# EAGLE library part AMPLIFIER-LMV358 (library IC)
Low-Voltage Rail-To-Rail Output Operational Amplifiers
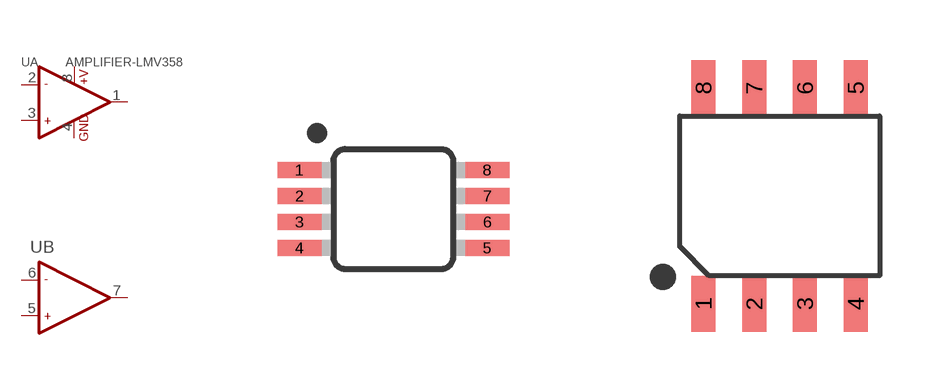
[diagram p5: symbol with the pads of MSOP-8; footprints MSOP-8, SOIC-8]

Designator prefix U; gates A=OPAMP_2-1 B=OPAMP_2_1-1

## AMPLIFIER-LMV358-310020007  [MSOP-8]
1  A:OUT1  out
2  A:-IN1  in
3  A:+IN1  in
4  A:GND  pwr
5  B:+IN2  in
6  B:-IN2  in
7  B:OUT2  out
8  A:+V  pwr

## AMPLIFIER-LMV358-310020002  [SOIC-8]
Pads as for MSOP-8

## Footprint MSOP-8 (pad centres in mm)
8M, 8-Lead, 0.118" Wide, Miniature Small Outline Package MSOP 8M-Package doc1097.pdf
smd 1.1 x 0.4: 1 -2.35,0.975; 2 -2.35,0.325; 3 -2.35,-0.325; 4 -2.35,-0.975; 5 2.35,-0.975; 6 2.35,-0.325; 7 2.35,0.325; 8 2.35,0.975

## Footprint SOIC-8 (pad centres in mm)
smd 0.6 x 1.4: 1 -1.905,-2.7; 2 -0.635,-2.7; 3 0.635,-2.7; 4 1.905,-2.7; 5 1.905,2.7; 6 0.635,2.7; 7 -0.635,2.7; 8 -1.905,2.7